# Altium schematic symbol library 电机驱动芯片.SchLib: 2 symbols
Pins are listed as number, name and electrical type; pins without a type are passive.

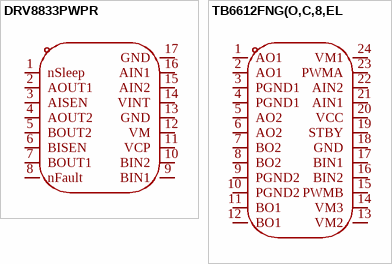
[diagram p0: symbols DRV8833PWPR to TB6612FNG(O,C,8,EL]

## DRV8833PWPR
designator U??  (value not drawn)
Manufacturer: TI(德州仪器); Add into BOM: yes; Symbol: DRV8833PWP; Device: DRV8833PWPR; LCSC Part Name: 1.5A 有刷直流电机驱动芯片 10.8V; Supplier Part: C50506; Manufacturer Part: DRV8833PWPR; Supplier Footprint: TSSOP-16-EP; JLCPCB Part Class: Extended Part; Datasheet: https://www.ti.com/cn/lit/gpn/drv8833; Supplier: LCSC; Convert to PCB: yes
footprint TSSOP-16_L5.0-W4.4-P0.65-LS6.4-BL-EP
pins: 1 nSleep, 2 AOUT1, 3 AISEN, 4 AOUT2, 5 BOUT2, 6 BISEN, 7 BOUT1, 8 nFault, 9 BIN1, 10 BIN2, 11 VCP, 12 VM, 13 GND, 14 VINT, 15 AIN2, 16 AIN1, 17 GND

## TB6612FNG(O,C,8,EL
designator U??  (value not drawn)
Manufacturer: TOSHIBA(东芝); Add into BOM: yes; Symbol: TB6612FNG(O,C,8,EL; Device: TB6612FNG(O,C,8,EL; LCSC Part Name: TB6612FNG(O,C,8,EL; Supplier Part: C88224; Manufacturer Part: TB6612FNG(O,C,8,EL; Supplier Footprint: SSOP-24-208mil; JLCPCB Part Class: Extended Part; Datasheet: https://atta.szlcsc.com/upload/public/pdf/source/20171128/C141517_15118625624231147036.pdf; Supplier: LCSC; Convert to PCB: yes
footprint SSOP-24_L8.4-W5.8-P0.65-LS7.8-BL
pins: 1 AO1, 2 AO1, 3 PGND1, 4 PGND1, 5 AO2, 6 AO2, 7 BO2, 8 BO2, 9 PGND2, 10 PGND2, 11 BO1, 12 BO1, 13 VM2, 14 VM3, 15 PWMB, 16 BIN2, 17 BIN1, 18 GND, 19 STBY, 20 VCC, 21 AIN1, 22 AIN2, 23 PWMA, 24 VM1